# Altium integrated library Molex FFC - FPC Connectors (SMT).IntLib: 638 symbols (part 17 of 20)
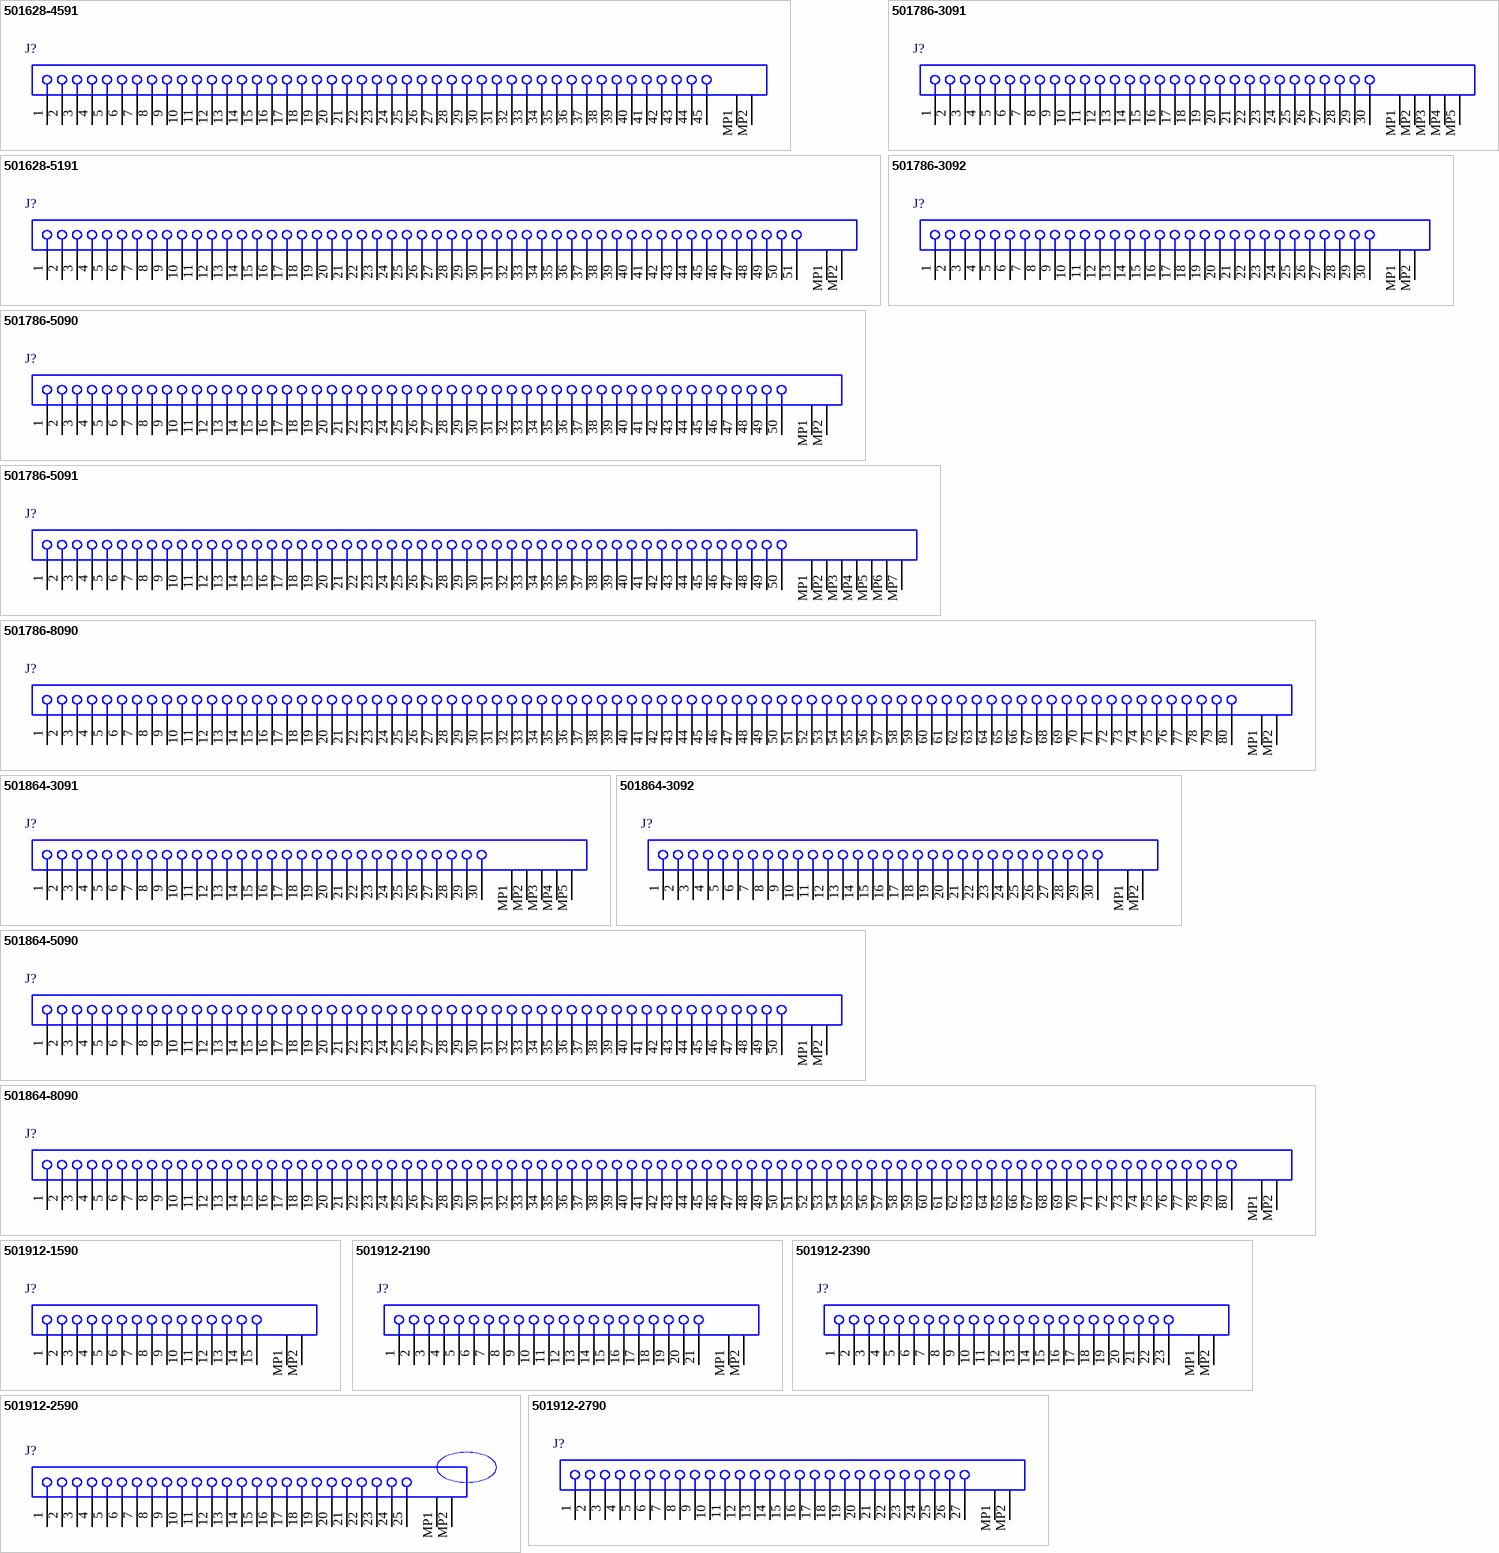
[diagram p37: symbols 501628-4591 to 501912-2790]

## 501864-5090
designator J?
0.5 mm Pitch Easy-On(TM) Type FFC Connector, 4.85 mm Mated Height, Right Angle, SMT, Bottom Contact, 50 Circuits, -40 to 85 degC, ELV and RoHS Compliant, Tape and Reel; Manufacturer: Molex; PartNumber: 501864-5090; Circuits (Loaded): 50; Current (Max per Contact): 0.5A; Durability (mating cycles max): 20; Entry Angle: 90degrees Angle; Mated Height: 4.85mm; Material - Metal: Copper Alloy; Material - Plating Mating: Gold; PCB Locator: Yes; Pitch - Mating Interface: 0.50mm; Stackable: No; Voltage (Max): 50V AC (RMS)/DC; PackageVersion: Rev. A, 05/2010; PackageReference: 501864-5090; PackageDescription: 50-Lead FFC Connector, Pitch 0.5 mm; Contact Position: Bottom; Material - Plating Termination: Gold; Number of Rows: 1; Orientation: Right Angle; Packing: Tape and Reel; PCB Retention: Yes; Polarized to PCB: Yes; RoHS: TRUE; Mounting Technology: Surface Mount; ComponentLink1Description: Manufacturer URL; ComponentLink1URL: http://www.molex.com/molex/index.jsp; ComponentLink2Description: Datasheet; ComponentLink2URL: http://www.molex.com/webdocs/datasheets/pdf/en-us/5018645090_FFC_FPC_CONNECTORS.pdf; ComponentLink3Description: Package Specification; ComponentLink3URL: http://www.molex.com/pdm_docs/sd/5018645090_sd.pdf
footprint MOLX-501864-5090 (FFC Connector, 50-Leads, Right Angle, Pitch 0.5 mm, Mated Height 4.85 mm, SMT)
pins: 1, 2, 3, 4, 5, 6, 7, 8, 9, 10, 11, 12, 13, 14, 15, 16, 17, 18, 19, 20, 21, 22, 23, 24, 25, 26, 27, 28, 29, 30, 31, 32, 33, 34, 35, 36, 37, 38, 39, 40, 41, 42, 43, 44, 45, 46, 47, 48, 49, 50, MP1, MP2

## 501864-8090
designator J?
0.5 mm Pitch Easy-On(TM) Type FFC Connector, 4.85 mm Mated Height, Right Angle, SMT, Bottom Contact, 80 Circuits, -40 to 85 degC, ELV and RoHS Compliant, Tape and Reel; Manufacturer: Molex; PartNumber: 501864-8090; Circuits (Loaded): 80; Current (Max per Contact): 0.5A; Durability (mating cycles max): 20; Entry Angle: 90degrees Angle; Mated Height: 4.85mm; Material - Metal: Copper Alloy; Material - Plating Mating: Gold; PCB Locator: Yes; Pitch - Mating Interface: 0.50mm; Stackable: No; Voltage (Max): 50V AC (RMS)/DC; PackageVersion: Rev. A, 05/2010; PackageReference: 501864-8090; PackageDescription: 80-Lead FFC Connector, Pitch 0.5 mm; Contact Position: Bottom; Material - Plating Termination: Gold; Number of Rows: 1; Orientation: Right Angle; Packing: Tape and Reel; PCB Retention: Yes; Polarized to PCB: Yes; RoHS: TRUE; Mounting Technology: Surface Mount; ComponentLink1Description: Manufacturer URL; ComponentLink1URL: http://www.molex.com/molex/index.jsp; ComponentLink2Description: Datasheet; ComponentLink2URL: http://www.molex.com/webdocs/datasheets/pdf/en-us/5018648090_FFC_FPC_CONNECTORS.pdf; ComponentLink3Description: Package Specification; ComponentLink3URL: http://www.molex.com/pdm_docs/sd/5018648090_sd.pdf
footprint MOLX-501864-8090 (FFC Connector, 80-Leads, Right Angle, Pitch 0.5 mm, Mated Height 4.85 mm, SMT)
pins: 1, 2, 3, 4, 5, 6, 7, 8, 9, 10, 11, 12, 13, 14, 15, 16, 17, 18, 19, 20, 21, 22, 23, 24, 25, 26, 27, 28, 29, 30, 31, 32, 33, 34, 35, 36, 37, 38, 39, 40, 41, 42, 43, 44, 45, 46, 47, 48, 49, 50, 51, 52, 53, 54, 55, 56, 57, 58, 59, 60, 61, 62, 63, 64, 65, 66, 67, 68, 69, 70, 71, 72, 73, 74, 75, 76, 77, 78, 79, 80, MP1, MP2

## 501912-1590
designator J?
0.3 mm Pitch Easy-On(TM) Type FPC Connector, 1.8 mm Mated Height, Right Angle, SMT, Bottom Contact, 15 Circuits, -20 to 85 degC, ELV and RoHS Compliant, Tape and Reel; Manufacturer: Molex; PartNumber: 501912-1590; Circuits (Loaded): 15; Current (Max per Contact): 0.2A; Durability (mating cycles max): 20; Entry Angle: 90degrees Angle; Mated Height: 1.80mm; Material - Metal: Copper, Phosphor Bronze; Material - Plating Mating: Gold; PCB Locator: No; PCB Retention: None; Pitch - Mating Interface: 0.30mm; Voltage (Max): 50V AC (RMS)/DC; PackageVersion: Rev. F, 04/2008; PackageReference: 501912-1590; PackageDescription: 15-Lead FPC Connector, Pitch 0.3 mm; Circuits (maximum): 15; Contact Position: Bottom; Material - Plating Termination: Gold; Number of Rows: 1; Orientation: Right Angle; Packing: Tape and Reel; Pitch - Termination Interface: 0.30mm; Polarized to PCB: No; RoHS: TRUE; Stackable: No; Mounting Technology: Surface Mount; ComponentLink1Description: Manufacturer URL; ComponentLink1URL: http://www.molex.com/molex/index.jsp; ComponentLink2Description: Datasheet; ComponentLink2URL: http://www.molex.com/webdocs/datasheets/pdf/en-us/5019121590_FFC_FPC_CONNECTORS.pdf; ComponentLink3Description: Package Specification; ComponentLink3URL: http://www.molex.com/pdm_docs/sd/5019121590_sd.pdf
footprint MOLX-501912-1590 (FPC Connector, 15-Leads, Right Angle, Pitch 0.3 mm, Mated Height 1.8 mm, SMT)
pins: 1, 2, 3, 4, 5, 6, 7, 8, 9, 10, 11, 12, 13, 14, 15, MP1, MP2

## 501912-2190
designator J?
0.3 mm Pitch Easy-On(TM) Type FPC Connector, 1.8 mm Mated Height, Right Angle, SMT, Bottom Contact, 21 Circuits, -20 to 85 degC, ELV and RoHS Compliant, Tape and Reel; Manufacturer: Molex; PartNumber: 501912-2190; Circuits (Loaded): 21; Current (Max per Contact): 0.2A; Durability (mating cycles max): 20; Entry Angle: 90degrees Angle; Mated Height: 1.80mm; Material - Metal: Copper, Phosphor Bronze; Material - Plating Mating: Gold; PCB Locator: No; PCB Retention: None; Pitch - Mating Interface: 0.30mm; Voltage (Max): 50V AC (RMS)/DC; PackageVersion: Rev. F, 04/2008; PackageReference: 501912-2190; PackageDescription: 21-Lead FPC Connector, Pitch 0.3 mm; Circuits (maximum): 21; Contact Position: Bottom; Material - Plating Termination: Gold; Number of Rows: 1; Orientation: Right Angle; Packing: Tape and Reel; Pitch - Termination Interface: 0.30mm; Polarized to PCB: No; RoHS: TRUE; Stackable: No; Mounting Technology: Surface Mount; ComponentLink1Description: Manufacturer URL; ComponentLink1URL: http://www.molex.com/molex/index.jsp; ComponentLink2Description: Datasheet; ComponentLink2URL: http://www.molex.com/webdocs/datasheets/pdf/en-us/5019122190_FFC_FPC_CONNECTORS.pdf; ComponentLink3Description: Package Specification; ComponentLink3URL: http://www.molex.com/pdm_docs/sd/5019122190_sd.pdf
footprint MOLX-501912-2190 (FPC Connector, 21-Leads, Right Angle, Pitch 0.3 mm, Mated Height 1.8 mm, SMT)
pins: 1, 2, 3, 4, 5, 6, 7, 8, 9, 10, 11, 12, 13, 14, 15, 16, 17, 18, 19, 20, 21, MP1, MP2

## 501912-2390
designator J?
0.3 mm Pitch Easy-On(TM) Type FPC Connector, 1.8 mm Mated Height, Right Angle, SMT, Bottom Contact, 23 Circuits, -20 to 85 degC, ELV and RoHS Compliant, Tape and Reel; Manufacturer: Molex; PartNumber: 501912-2390; Circuits (Loaded): 23; Current (Max per Contact): 0.2A; Durability (mating cycles max): 20; Entry Angle: 90degrees Angle; Mated Height: 1.80mm; Material - Metal: Copper, Phosphor Bronze; Material - Plating Mating: Gold; PCB Locator: No; PCB Retention: None; Pitch - Mating Interface: 0.30mm; Voltage (Max): 50V AC (RMS)/DC; PackageVersion: Rev. F, 04/2008; PackageReference: 501912-2390; PackageDescription: 23-Lead FPC Connector, Pitch 0.3 mm; Circuits (maximum): 23; Contact Position: Bottom; Material - Plating Termination: Gold; Number of Rows: 1; Orientation: Right Angle; Packing: Tape and Reel; Pitch - Termination Interface: 0.30mm; Polarized to PCB: No; RoHS: TRUE; Stackable: No; Mounting Technology: Surface Mount; ComponentLink1Description: Manufacturer URL; ComponentLink1URL: http://www.molex.com/molex/index.jsp; ComponentLink2Description: Datasheet; ComponentLink2URL: http://www.molex.com/webdocs/datasheets/pdf/en-us/5019122390_FFC_FPC_CONNECTORS.pdf; ComponentLink3Description: Package Specification; ComponentLink3URL: http://www.molex.com/pdm_docs/sd/5019122390_sd.pdf
footprint MOLX-501912-2390 (FPC Connector, 23-Leads, Right Angle, Pitch 0.3 mm, Mated Height 1.8 mm, SMT)
pins: 1, 2, 3, 4, 5, 6, 7, 8, 9, 10, 11, 12, 13, 14, 15, 16, 17, 18, 19, 20, 21, 22, 23, MP1, MP2

## 501912-2590
designator J?
0.3 mm Pitch Easy-On(TM) Type FPC Connector, 1.8 mm Mated Height, Right Angle, SMT, Bottom Contact, 25 Circuits, -20 to 85 degC, ELV and RoHS Compliant, Tape and Reel; Manufacturer: Molex; PartNumber: 501912-2590; Circuits (Loaded): 25; Current (Max per Contact): 0.2A; Durability (mating cycles max): 20; Entry Angle: 90degrees Angle; Mated Height: 1.80mm; Material - Metal: Copper, Phosphor Bronze; Material - Plating Mating: Gold; PCB Locator: No; PCB Retention: None; Pitch - Mating Interface: 0.30mm; Voltage (Max): 50V AC (RMS)/DC; PackageVersion: Rev. F, 04/2008; PackageReference: 501912-2590; PackageDescription: 25-Lead FPC Connector, Pitch 0.3 mm; Circuits (maximum): 25; Contact Position: Bottom; Material - Plating Termination: Gold; Number of Rows: 1; Orientation: Right Angle; Packing: Tape and Reel; Pitch - Termination Interface: 0.30mm; Polarized to PCB: No; RoHS: TRUE; Stackable: No; Mounting Technology: Surface Mount; ComponentLink1Description: Manufacturer URL; ComponentLink1URL: http://www.molex.com/molex/index.jsp; ComponentLink2Description: Datasheet; ComponentLink2URL: http://www.molex.com/webdocs/datasheets/pdf/en-us/5019122590_FFC_FPC_CONNECTORS.pdf; ComponentLink3Description: Package Specification; ComponentLink3URL: http://www.molex.com/pdm_docs/sd/5019122590_sd.pdf
footprint MOLX-501912-2590 (FPC Connector, 25-Leads, Right Angle, Pitch 0.3 mm, Mated Height 1.8 mm, SMT)
pins: 1, 2, 3, 4, 5, 6, 7, 8, 9, 10, 11, 12, 13, 14, 15, 16, 17, 18, 19, 20, 21, 22, 23, 24, 25, MP1, MP2

## 501912-2790
designator J?
0.3 mm Pitch Easy-On(TM) Type FPC Connector, 1.8 mm Mated Height, Right Angle, SMT, Bottom Contact, 27 Circuits, -20 to 85 degC, ELV and RoHS Compliant, Tape and Reel; Manufacturer: Molex; PartNumber: 501912-2790; Circuits (Loaded): 27; Current (Max per Contact): 0.2A; Durability (mating cycles max): 20; Entry Angle: 90degrees Angle; Mated Height: 1.80mm; Material - Metal: Copper, Phosphor Bronze; Material - Plating Mating: Gold; PCB Locator: No; PCB Retention: None; Pitch - Mating Interface: 0.30mm; Voltage (Max): 50V AC (RMS)/DC; PackageVersion: Rev. F, 04/2008; PackageReference: 501912-2790; PackageDescription: 27-Lead FPC Connector, Pitch 0.3 mm; Circuits (maximum): 27; Contact Position: Bottom; Material - Plating Termination: Gold; Number of Rows: 1; Orientation: Right Angle; Packing: Tape and Reel; Pitch - Termination Interface: 0.30mm; Polarized to PCB: No; RoHS: TRUE; Stackable: No; Mounting Technology: Surface Mount; ComponentLink1Description: Manufacturer URL; ComponentLink1URL: http://www.molex.com/molex/index.jsp; ComponentLink2Description: Datasheet; ComponentLink2URL: http://www.molex.com/webdocs/datasheets/pdf/en-us/5019122790_FFC_FPC_CONNECTORS.pdf; ComponentLink3Description: Package Specification; ComponentLink3URL: http://www.molex.com/pdm_docs/sd/5019122790_sd.pdf
footprint MOLX-501912-2790 (FPC Connector, 27-Leads, Right Angle, Pitch 0.3 mm, Mated Height 1.8 mm, SMT)
pins: 1, 2, 3, 4, 5, 6, 7, 8, 9, 10, 11, 12, 13, 14, 15, 16, 17, 18, 19, 20, 21, 22, 23, 24, 25, 26, 27, MP1, MP2

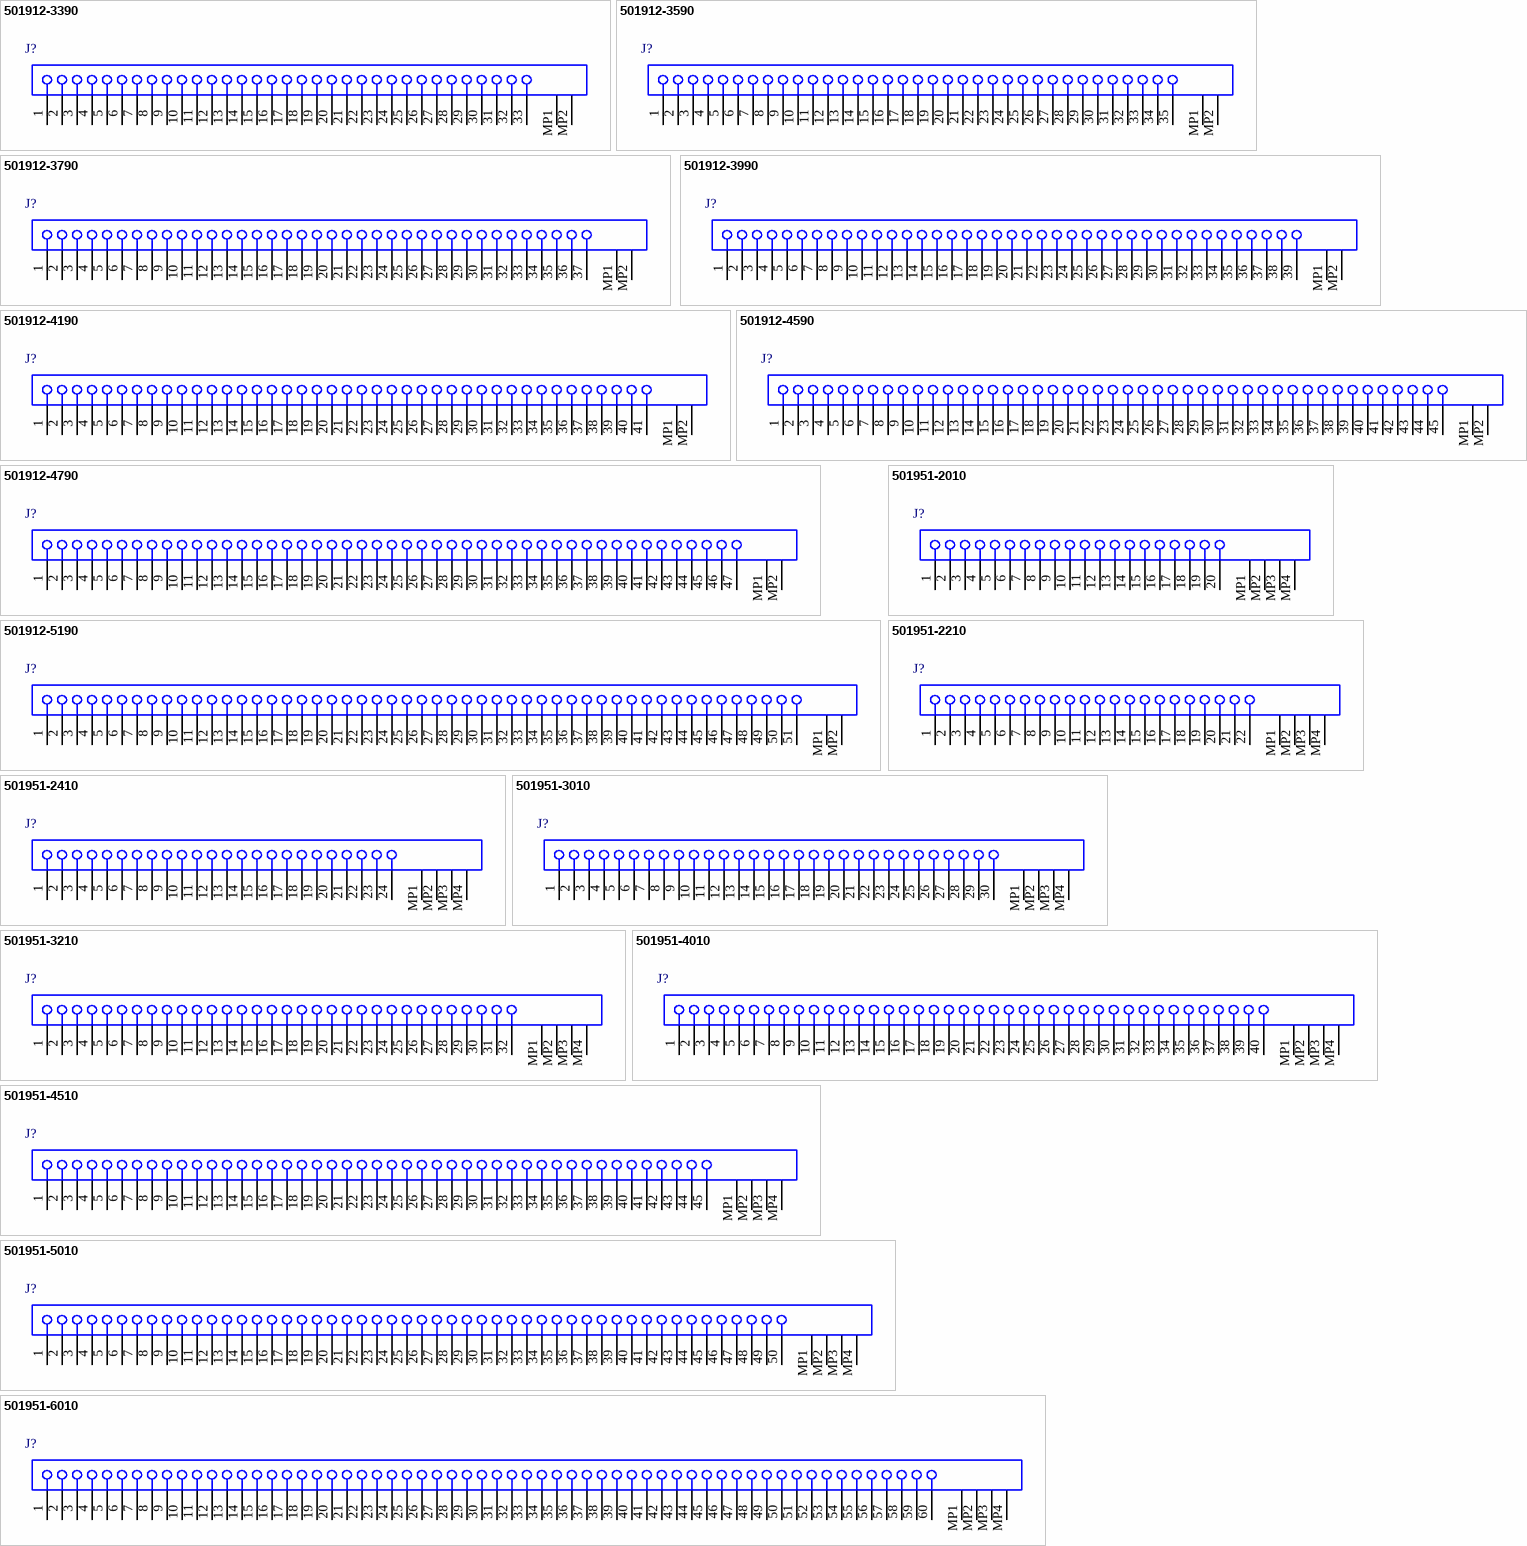
[diagram p17: symbols 501912-3390 to 501951-6010]

## 501912-3390
designator J?
0.3 mm Pitch Easy-On(TM) Type FPC Connector, 1.8 mm Mated Height, Right Angle, SMT, Bottom Contact, 33 Circuits, -20 to 85 degC, ELV and RoHS Compliant, Tape and Reel; Manufacturer: Molex; PartNumber: 501912-3390; Circuits (Loaded): 33; Current (Max per Contact): 0.2A; Durability (mating cycles max): 20; Entry Angle: 90degrees Angle; Mated Height: 1.80mm; Material - Metal: Copper, Phosphor Bronze; Material - Plating Mating: Gold; PCB Locator: No; PCB Retention: None; Pitch - Mating Interface: 0.30mm; Voltage (Max): 50V AC (RMS)/DC; PackageVersion: Rev. F, 04/2008; PackageReference: 501912-3390; PackageDescription: 33-Lead FPC Connector, Pitch 0.3 mm; Circuits (maximum): 33; Contact Position: Bottom; Material - Plating Termination: Gold; Number of Rows: 1; Orientation: Right Angle; Packing: Tape and Reel; Pitch - Termination Interface: 0.30mm; Polarized to PCB: No; RoHS: TRUE; Stackable: No; Mounting Technology: Surface Mount; ComponentLink1Description: Manufacturer URL; ComponentLink1URL: http://www.molex.com/molex/index.jsp; ComponentLink2Description: Datasheet; ComponentLink2URL: http://www.molex.com/webdocs/datasheets/pdf/en-us/5019123390_FFC_FPC_CONNECTORS.pdf; ComponentLink3Description: Package Specification; ComponentLink3URL: http://www.molex.com/pdm_docs/sd/5019123390_sd.pdf
footprint MOLX-501912-3390 (FPC Connector, 33-Leads, Right Angle, Pitch 0.3 mm, Mated Height 1.8 mm, SMT)
pins: 1, 2, 3, 4, 5, 6, 7, 8, 9, 10, 11, 12, 13, 14, 15, 16, 17, 18, 19, 20, 21, 22, 23, 24, 25, 26, 27, 28, 29, 30, 31, 32, 33, MP1, MP2

## 501912-3590
designator J?
0.3 mm Pitch Easy-On(TM) Type FPC Connector, 1.8 mm Mated Height, Right Angle, SMT, Bottom Contact, 35 Circuits, -20 to 85 degC, ELV and RoHS Compliant, Tape and Reel; Manufacturer: Molex; PartNumber: 501912-3590; Circuits (Loaded): 35; Current (Max per Contact): 0.2A; Durability (mating cycles max): 20; Entry Angle: 90degrees Angle; Mated Height: 1.80mm; Material - Metal: Copper, Phosphor Bronze; Material - Plating Mating: Gold; PCB Locator: No; PCB Retention: None; Pitch - Mating Interface: 0.30mm; Voltage (Max): 50V AC (RMS)/DC; PackageVersion: Rev. F, 04/2008; PackageReference: 501912-3590; PackageDescription: 35-Lead FPC Connector, Pitch 0.3 mm; Circuits (maximum): 35; Contact Position: Bottom; Material - Plating Termination: Gold; Number of Rows: 1; Orientation: Right Angle; Packing: Tape and Reel; Pitch - Termination Interface: 0.30mm; Polarized to PCB: No; RoHS: TRUE; Stackable: No; Mounting Technology: Surface Mount; ComponentLink1Description: Manufacturer URL; ComponentLink1URL: http://www.molex.com/molex/index.jsp; ComponentLink2Description: Datasheet; ComponentLink2URL: http://www.molex.com/webdocs/datasheets/pdf/en-us/5019123590_FFC_FPC_CONNECTORS.pdf; ComponentLink3Description: Package Specification; ComponentLink3URL: http://www.molex.com/pdm_docs/sd/5019123590_sd.pdf
footprint MOLX-501912-3590 (FPC Connector, 35-Leads, Right Angle, Pitch 0.3 mm, Mated Height 1.8 mm, SMT)
pins: 1, 2, 3, 4, 5, 6, 7, 8, 9, 10, 11, 12, 13, 14, 15, 16, 17, 18, 19, 20, 21, 22, 23, 24, 25, 26, 27, 28, 29, 30, 31, 32, 33, 34, 35, MP1, MP2

## 501912-3790
designator J?
0.3 mm Pitch Easy-On(TM) Type FPC Connector, 1.8 mm Mated Height, Right Angle, SMT, Bottom Contact, 37 Circuits, -20 to 85 degC, ELV and RoHS Compliant, Tape and Reel; Manufacturer: Molex; PartNumber: 501912-3790; Circuits (Loaded): 37; Current (Max per Contact): 0.2A; Durability (mating cycles max): 20; Entry Angle: 90degrees Angle; Mated Height: 1.80mm; Material - Metal: Copper, Phosphor Bronze; Material - Plating Mating: Gold; PCB Locator: No; PCB Retention: None; Pitch - Mating Interface: 0.30mm; Voltage (Max): 50V AC (RMS)/DC; PackageVersion: Rev. F, 04/2008; PackageReference: 501912-3790; PackageDescription: 37-Lead FPC Connector, Pitch 0.3 mm; Circuits (maximum): 37; Contact Position: Bottom; Material - Plating Termination: Gold; Number of Rows: 1; Orientation: Right Angle; Packing: Tape and Reel; Pitch - Termination Interface: 0.30mm; Polarized to PCB: No; RoHS: TRUE; Stackable: No; Mounting Technology: Surface Mount; ComponentLink1Description: Manufacturer URL; ComponentLink1URL: http://www.molex.com/molex/index.jsp; ComponentLink2Description: Datasheet; ComponentLink2URL: http://www.molex.com/webdocs/datasheets/pdf/en-us/5019123790_FFC_FPC_CONNECTORS.pdf; ComponentLink3Description: Package Specification; ComponentLink3URL: http://www.molex.com/pdm_docs/sd/5019123790_sd.pdf
footprint MOLX-501912-3790 (FPC Connector, 37-Leads, Right Angle, Pitch 0.3 mm, Mated Height 1.8 mm, SMT)
pins: 1, 2, 3, 4, 5, 6, 7, 8, 9, 10, 11, 12, 13, 14, 15, 16, 17, 18, 19, 20, 21, 22, 23, 24, 25, 26, 27, 28, 29, 30, 31, 32, 33, 34, 35, 36, 37, MP1, MP2

## 501912-3990
designator J?
0.3 mm Pitch Easy-On(TM) Type FPC Connector, 1.8 mm Mated Height, Right Angle, SMT, Bottom Contact, 39 Circuits, -20 to 85 degC, ELV and RoHS Compliant, Tape and Reel; Manufacturer: Molex; PartNumber: 501912-3990; Circuits (Loaded): 39; Current (Max per Contact): 0.2A; Durability (mating cycles max): 20; Entry Angle: 90degrees Angle; Mated Height: 1.80mm; Material - Metal: Copper, Phosphor Bronze; Material - Plating Mating: Gold; PCB Locator: No; PCB Retention: None; Pitch - Mating Interface: 0.30mm; Voltage (Max): 50V AC (RMS)/DC; PackageVersion: Rev. F, 04/2008; PackageReference: 501912-3990; PackageDescription: 39-Lead FPC Connector, Pitch 0.3 mm; Circuits (maximum): 39; Contact Position: Bottom; Material - Plating Termination: Gold; Number of Rows: 1; Orientation: Right Angle; Packing: Tape and Reel; Pitch - Termination Interface: 0.30mm; Polarized to PCB: No; RoHS: TRUE; Stackable: No; Mounting Technology: Surface Mount; ComponentLink1Description: Manufacturer URL; ComponentLink1URL: http://www.molex.com/molex/index.jsp; ComponentLink2Description: Datasheet; ComponentLink2URL: http://www.molex.com/webdocs/datasheets/pdf/en-us/5019123990_FFC_FPC_CONNECTORS.pdf; ComponentLink3Description: Package Specification; ComponentLink3URL: http://www.molex.com/pdm_docs/sd/5019123990_sd.pdf
footprint MOLX-501912-3990 (FPC Connector, 39-Leads, Right Angle, Pitch 0.3 mm, Mated Height 1.8 mm, SMT)
pins: 1, 2, 3, 4, 5, 6, 7, 8, 9, 10, 11, 12, 13, 14, 15, 16, 17, 18, 19, 20, 21, 22, 23, 24, 25, 26, 27, 28, 29, 30, 31, 32, 33, 34, 35, 36, 37, 38, 39, MP1, MP2

## 501912-4190
designator J?
0.3 mm Pitch Easy-On(TM) Type FPC Connector, 1.8 mm Mated Height, Right Angle, SMT, Bottom Contact, 41 Circuits, -20 to 85 degC, ELV and RoHS Compliant, Tape and Reel; Manufacturer: Molex; PartNumber: 501912-4190; Circuits (Loaded): 41; Current (Max per Contact): 0.2A; Durability (mating cycles max): 20; Entry Angle: 90degrees Angle; Mated Height: 1.80mm; Material - Metal: Copper, Phosphor Bronze; Material - Plating Mating: Gold; PCB Locator: No; PCB Retention: None; Pitch - Mating Interface: 0.30mm; Voltage (Max): 50V AC (RMS)/DC; PackageVersion: Rev. F, 04/2008; PackageReference: 501912-4190; PackageDescription: 41-Lead FPC Connector, Pitch 0.3 mm; Circuits (maximum): 41; Contact Position: Bottom; Material - Plating Termination: Gold; Number of Rows: 1; Orientation: Right Angle; Packing: Tape and Reel; Pitch - Termination Interface: 0.30mm; Polarized to PCB: No; RoHS: TRUE; Stackable: No; Mounting Technology: Surface Mount; ComponentLink1Description: Manufacturer URL; ComponentLink1URL: http://www.molex.com/molex/index.jsp; ComponentLink2Description: Datasheet; ComponentLink2URL: http://www.molex.com/webdocs/datasheets/pdf/en-us/5019124190_FFC_FPC_CONNECTORS.pdf; ComponentLink3Description: Package Specification; ComponentLink3URL: http://www.molex.com/pdm_docs/sd/5019124190_sd.pdf
footprint MOLX-501912-4190 (FPC Connector, 41-Leads, Right Angle, Pitch 0.3 mm, Mated Height 1.8 mm, SMT)
pins: 1, 2, 3, 4, 5, 6, 7, 8, 9, 10, 11, 12, 13, 14, 15, 16, 17, 18, 19, 20, 21, 22, 23, 24, 25, 26, 27, 28, 29, 30, 31, 32, 33, 34, 35, 36, 37, 38, 39, 40, 41, MP1, MP2

## 501912-4590
designator J?
0.3 mm Pitch Easy-On(TM) Type FPC Connector, 1.8 mm Mated Height, Right Angle, SMT, Bottom Contact, 45 Circuits, -20 to 85 degC, ELV and RoHS Compliant, Tape and Reel; Manufacturer: Molex; PartNumber: 501912-4590; Circuits (Loaded): 45; Current (Max per Contact): 0.2A; Durability (mating cycles max): 20; Entry Angle: 90degrees Angle; Mated Height: 1.80mm; Material - Metal: Copper, Phosphor Bronze; Material - Plating Mating: Gold; PCB Locator: No; PCB Retention: None; Pitch - Mating Interface: 0.30mm; Voltage (Max): 50V AC (RMS)/DC; PackageVersion: Rev. F, 04/2008; PackageReference: 501912-4590; PackageDescription: 45-Lead FPC Connector, Pitch 0.3 mm; Circuits (maximum): 45; Contact Position: Bottom; Material - Plating Termination: Gold; Number of Rows: 1; Orientation: Right Angle; Packing: Tape and Reel; Pitch - Termination Interface: 0.30mm; Polarized to PCB: No; RoHS: TRUE; Stackable: No; Mounting Technology: Surface Mount; ComponentLink1Description: Manufacturer URL; ComponentLink1URL: http://www.molex.com/molex/index.jsp; ComponentLink2Description: Datasheet; ComponentLink2URL: http://www.molex.com/webdocs/datasheets/pdf/en-us/5019124590_FFC_FPC_CONNECTORS.pdf; ComponentLink3Description: Package Specification; ComponentLink3URL: http://www.molex.com/pdm_docs/sd/5019124590_sd.pdf
footprint MOLX-501912-4590 (FPC Connector, 45-Leads, Right Angle, Pitch 0.3 mm, Mated Height 1.8 mm, SMT)
pins: 1, 2, 3, 4, 5, 6, 7, 8, 9, 10, 11, 12, 13, 14, 15, 16, 17, 18, 19, 20, 21, 22, 23, 24, 25, 26, 27, 28, 29, 30, 31, 32, 33, 34, 35, 36, 37, 38, 39, 40, 41, 42, 43, 44, 45, MP1, MP2

## 501912-4790
designator J?
0.3 mm Pitch Easy-On(TM) Type FPC Connector, 1.8 mm Mated Height, Right Angle, SMT, Bottom Contact, 47 Circuits, -20 to 85 degC, ELV and RoHS Compliant, Tape and Reel; Manufacturer: Molex; PartNumber: 501912-4790; Circuits (Loaded): 47; Current (Max per Contact): 0.2A; Durability (mating cycles max): 20; Entry Angle: 90degrees Angle; Mated Height: 1.80mm; Material - Metal: Copper, Phosphor Bronze; Material - Plating Mating: Gold; PCB Locator: No; PCB Retention: None; Pitch - Mating Interface: 0.30mm; Voltage (Max): 50V AC (RMS)/DC; PackageVersion: Rev. F, 04/2008; PackageReference: 501912-4790; PackageDescription: 47-Lead FPC Connector, Pitch 0.3 mm; Circuits (maximum): 47; Contact Position: Bottom; Material - Plating Termination: Gold; Number of Rows: 1; Orientation: Right Angle; Packing: Tape and Reel; Pitch - Termination Interface: 0.30mm; Polarized to PCB: No; RoHS: TRUE; Stackable: No; Mounting Technology: Surface Mount; ComponentLink1Description: Manufacturer URL; ComponentLink1URL: http://www.molex.com/molex/index.jsp; ComponentLink2Description: Datasheet; ComponentLink2URL: http://www.molex.com/webdocs/datasheets/pdf/en-us/5019124790_FFC_FPC_CONNECTORS.pdf; ComponentLink3Description: Package Specification; ComponentLink3URL: http://www.molex.com/pdm_docs/sd/5019124790_sd.pdf
footprint MOLX-501912-4790 (FPC Connector, 47-Leads, Right Angle, Pitch 0.3 mm, Mated Height 1.8 mm, SMT)
pins: 1, 2, 3, 4, 5, 6, 7, 8, 9, 10, 11, 12, 13, 14, 15, 16, 17, 18, 19, 20, 21, 22, 23, 24, 25, 26, 27, 28, 29, 30, 31, 32, 33, 34, 35, 36, 37, 38, 39, 40, 41, 42, 43, 44, 45, 46, 47, MP1, MP2

## 501912-5190
designator J?
0.3 mm Pitch Easy-On(TM) Type FPC Connector, 1.8 mm Mated Height, Right Angle, SMT, Bottom Contact, 51 Circuits, -20 to 85 degC, ELV and RoHS Compliant, Tape and Reel; Manufacturer: Molex; PartNumber: 501912-5190; Circuits (Loaded): 51; Current (Max per Contact): 0.2A; Durability (mating cycles max): 20; Entry Angle: 90degrees Angle; Mated Height: 1.80mm; Material - Metal: Copper, Phosphor Bronze; Material - Plating Mating: Gold; PCB Locator: No; PCB Retention: None; Pitch - Mating Interface: 0.30mm; Voltage (Max): 50V AC (RMS)/DC; PackageVersion: Rev. F, 04/2008; PackageReference: 501912-5190; PackageDescription: 51-Lead FPC Connector, Pitch 0.3 mm; Circuits (maximum): 51; Contact Position: Bottom; Material - Plating Termination: Gold; Number of Rows: 1; Orientation: Right Angle; Packing: Tape and Reel; Pitch - Termination Interface: 0.30mm; Polarized to PCB: No; RoHS: TRUE; Stackable: No; Mounting Technology: Surface Mount; ComponentLink1Description: Manufacturer URL; ComponentLink1URL: http://www.molex.com/molex/index.jsp; ComponentLink2Description: Datasheet; ComponentLink2URL: http://www.molex.com/webdocs/datasheets/pdf/en-us/5019125190_FFC_FPC_CONNECTORS.pdf; ComponentLink3Description: Package Specification; ComponentLink3URL: http://www.molex.com/pdm_docs/sd/5019125190_sd.pdf
footprint MOLX-501912-5190 (FPC Connector, 51-Leads, Right Angle, Pitch 0.3 mm, Mated Height 1.8 mm, SMT)
pins: 1, 2, 3, 4, 5, 6, 7, 8, 9, 10, 11, 12, 13, 14, 15, 16, 17, 18, 19, 20, 21, 22, 23, 24, 25, 26, 27, 28, 29, 30, 31, 32, 33, 34, 35, 36, 37, 38, 39, 40, 41, 42, 43, 44, 45, 46, 47, 48, 49, 50, 51, MP1, MP2

## 501951-2010
designator J?
0.5 mm Pitch Easy-On(TM) Type FPC Connector, 4.05 mm Mated Height, Vertical, SMT, 20 Circuits, -25 to 85 degC, ELV and RoHS Compliant, Tape and Reel; Manufacturer: Molex; PartNumber: 501951-2010; Circuits (Loaded): 20; Current (Max per Contact): 0.4A; Mated Height: 4.05mm; Material - Metal: Phosphor Bronze; Material - Plating Mating: Gold; PCB Locator: No; PCB Retention: Yes; Pitch - Mating Interface: 0.50mm; Voltage (Max): 50V AC (RMS)/DC; PackageVersion: Rev. E, 01/2011; PackageReference: 501951-2010; PackageDescription: 20-Lead FPC Connector, Pitch 0.5 mm; Circuits (maximum): 20; Contact Position: N/A; Durability (mating cycles max): 20; Entry Angle: Vertical; Material - Plating Termination: Gold; Number of Rows: 1; Orientation: Vertical; Packing: Tape and Reel; Pitch - Termination Interface: 0.50mm; Polarized to PCB: No; RoHS: TRUE; Stackable: No; Mounting Technology: Surface Mount; ComponentLink1Description: Manufacturer URL; ComponentLink1URL: http://www.molex.com/molex/index.jsp; ComponentLink2Description: Datasheet; ComponentLink2URL: http://www.molex.com/webdocs/datasheets/pdf/en-us/5019512010_FFC_FPC_CONNECTORS.pdf; ComponentLink3Description: Package Specification; ComponentLink3URL: http://www.molex.com/pdm_docs/sd/5019512010_sd.pdf
footprint MOLX-501951-2010 (FPC Connector, 20-Leads, Vertical, Pitch 0.5 mm, Mated Height 4.05 mm, SMT)
pins: 1, 2, 3, 4, 5, 6, 7, 8, 9, 10, 11, 12, 13, 14, 15, 16, 17, 18, 19, 20, MP1, MP2, MP3, MP4

## 501951-2210
designator J?
0.5 mm Pitch Easy-On(TM) Type FPC Connector, 4.05 mm Mated Height, Vertical, SMT, 22 Circuits, -25 to 85 degC, ELV and RoHS Compliant, Tape and Reel; Manufacturer: Molex; PartNumber: 501951-2210; Circuits (Loaded): 22; Current (Max per Contact): 0.4A; Durability (mating cycles max): 20; Mated Height: 4.05mm; Material - Metal: Phosphor Bronze; Material - Plating Mating: Gold; PCB Locator: No; PCB Retention: Yes; Pitch - Mating Interface: 0.50mm; Voltage (Max): 50V AC (RMS)/DC; PackageVersion: Rev. E, 01/2011; PackageReference: 501951-2210; PackageDescription: 22-Lead FPC Connector, Pitch 0.5 mm; Circuits (maximum): 22; Contact Position: N/A; Entry Angle: Vertical; Material - Plating Termination: Gold; Number of Rows: 1; Orientation: Vertical; Packing: Tape and Reel; Pitch - Termination Interface: 0.50mm; Polarized to PCB: No; RoHS: TRUE; Stackable: No; Mounting Technology: Surface Mount; ComponentLink1Description: Manufacturer URL; ComponentLink1URL: http://www.molex.com/molex/index.jsp; ComponentLink2Description: Datasheet; ComponentLink2URL: http://www.molex.com/webdocs/datasheets/pdf/en-us/5019512210_FFC_FPC_CONNECTORS.pdf; ComponentLink3Description: Package Specification; ComponentLink3URL: http://www.molex.com/pdm_docs/sd/5019512210_sd.pdf
footprint MOLX-501951-2210 (FPC Connector, 22-Leads, Vertical, Pitch 0.5 mm, Mated Height 4.05 mm, SMT)
pins: 1, 2, 3, 4, 5, 6, 7, 8, 9, 10, 11, 12, 13, 14, 15, 16, 17, 18, 19, 20, 21, 22, MP1, MP2, MP3, MP4

## 501951-2410
designator J?
0.5 mm Pitch Easy-On(TM) Type FPC Connector, 4.05 mm Mated Height, Vertical, SMT, 24 Circuits, -25 to 85 degC, ELV and RoHS Compliant, Tape and Reel; Manufacturer: Molex; PartNumber: 501951-2410; Circuits (Loaded): 24; Current (Max per Contact): 0.4A; Durability (mating cycles max): 20; Mated Height: 4.05mm; Material - Metal: Phosphor Bronze; Material - Plating Mating: Gold; PCB Locator: No; PCB Retention: Yes; Pitch - Mating Interface: 0.50mm; Voltage (Max): 50V AC (RMS)/DC; PackageVersion: Rev. E, 01/2011; PackageReference: 501951-2410; PackageDescription: 24-Lead FPC Connector, Pitch 0.5 mm; Circuits (maximum): 24; Contact Position: N/A; Entry Angle: Vertical; Material - Plating Termination: Gold; Number of Rows: 1; Orientation: Vertical; Packing: Tape and Reel; Pitch - Termination Interface: 0.50mm; Polarized to PCB: No; RoHS: TRUE; Stackable: No; Mounting Technology: Surface Mount; ComponentLink1Description: Manufacturer URL; ComponentLink1URL: http://www.molex.com/molex/index.jsp; ComponentLink2Description: Datasheet; ComponentLink2URL: http://www.molex.com/webdocs/datasheets/pdf/en-us/5019512410_FFC_FPC_CONNECTORS.pdf; ComponentLink3Description: Package Specification; ComponentLink3URL: http://www.molex.com/pdm_docs/sd/5019512410_sd.pdf
footprint MOLX-501951-2410 (FPC Connector, 24-Leads, Vertical, Pitch 0.5 mm, Mated Height 4.05 mm, SMT)
pins: 1, 2, 3, 4, 5, 6, 7, 8, 9, 10, 11, 12, 13, 14, 15, 16, 17, 18, 19, 20, 21, 22, 23, 24, MP1, MP2, MP3, MP4

## 501951-3010
designator J?
0.5 mm Pitch Easy-On(TM) Type FPC Connector, 4.05 mm Mated Height, Vertical, SMT, 30 Circuits, -25 to 85 degC, ELV and RoHS Compliant, Tape and Reel; Manufacturer: Molex; PartNumber: 501951-3010; Circuits (Loaded): 30; Current (Max per Contact): 0.4A; Durability (mating cycles max): 20; Mated Height: 4.05mm; Material - Metal: Phosphor Bronze; Material - Plating Mating: Gold; PCB Locator: No; PCB Retention: Yes; Pitch - Mating Interface: 0.50mm; Voltage (Max): 50V AC (RMS)/DC; PackageVersion: Rev. E, 01/2011; PackageReference: 501951-3010; PackageDescription: 30-Lead FPC Connector, Pitch 0.5 mm; Circuits (maximum): 30; Contact Position: N/A; Entry Angle: Vertical; Material - Plating Termination: Gold; Number of Rows: 1; Orientation: Vertical; Packing: Tape and Reel; Pitch - Termination Interface: 0.50mm; Polarized to PCB: No; RoHS: TRUE; Stackable: No; Mounting Technology: Surface Mount; ComponentLink1Description: Manufacturer URL; ComponentLink1URL: http://www.molex.com/molex/index.jsp; ComponentLink2Description: Datasheet; ComponentLink2URL: http://www.molex.com/webdocs/datasheets/pdf/en-us/5019513010_FFC_FPC_CONNECTORS.pdf; ComponentLink3Description: Package Specification; ComponentLink3URL: http://www.molex.com/pdm_docs/sd/5019513010_sd.pdf
footprint MOLX-501951-3010 (FPC Connector, 30-Leads, Vertical, Pitch 0.5 mm, Mated Height 4.05 mm, SMT)
pins: 1, 2, 3, 4, 5, 6, 7, 8, 9, 10, 11, 12, 13, 14, 15, 16, 17, 18, 19, 20, 21, 22, 23, 24, 25, 26, 27, 28, 29, 30, MP1, MP2, MP3, MP4

## 501951-3210
designator J?
0.5 mm Pitch Easy-On(TM) Type FPC Connector, 4.05 mm Mated Height, Vertical, SMT, 32 Circuits, -25 to 85 degC, ELV and RoHS Compliant, Tape and Reel; Manufacturer: Molex; PartNumber: 501951-3210; Circuits (Loaded): 32; Current (Max per Contact): 0.4A; Durability (mating cycles max): 20; Mated Height: 4.05mm; Material - Metal: Phosphor Bronze; Material - Plating Mating: Gold; PCB Locator: No; PCB Retention: Yes; Pitch - Mating Interface: 0.50mm; Voltage (Max): 50V AC (RMS)/DC; PackageVersion: Rev. E, 01/2011; PackageReference: 501951-3210; PackageDescription: 32-Lead FPC Connector, Pitch 0.5 mm; Circuits (maximum): 32; Contact Position: N/A; Entry Angle: Vertical; Material - Plating Termination: Gold; Number of Rows: 1; Orientation: Vertical; Packing: Tape and Reel; Pitch - Termination Interface: 0.50mm; Polarized to PCB: No; RoHS: TRUE; Stackable: No; Mounting Technology: Surface Mount; ComponentLink1Description: Manufacturer URL; ComponentLink1URL: http://www.molex.com/molex/index.jsp; ComponentLink2Description: Datasheet; ComponentLink2URL: http://www.molex.com/webdocs/datasheets/pdf/en-us/5019513210_FFC_FPC_CONNECTORS.pdf; ComponentLink3Description: Package Specification; ComponentLink3URL: http://www.molex.com/pdm_docs/sd/5019513210_sd.pdf
footprint MOLX-501951-3210 (FPC Connector, 32-Leads, Vertical, Pitch 0.5 mm, Mated Height 4.05 mm, SMT)
pins: 1, 2, 3, 4, 5, 6, 7, 8, 9, 10, 11, 12, 13, 14, 15, 16, 17, 18, 19, 20, 21, 22, 23, 24, 25, 26, 27, 28, 29, 30, 31, 32, MP1, MP2, MP3, MP4

## 501951-4010
designator J?
0.5 mm Pitch Easy-On(TM) Type FPC Connector, 4.05 mm Mated Height, Vertical, SMT, 40 Circuits, -25 to 85 degC, ELV and RoHS Compliant, Tape and Reel; Manufacturer: Molex; PartNumber: 501951-4010; Circuits (Loaded): 40; Current (Max per Contact): 0.4A; Durability (mating cycles max): 20; Mated Height: 4.05mm; Material - Metal: Phosphor Bronze; Material - Plating Mating: Gold; PCB Locator: No; PCB Retention: Yes; Pitch - Mating Interface: 0.50mm; Voltage (Max): 50V AC (RMS)/DC; PackageVersion: Rev. E, 01/2011; PackageReference: 501951-4010; PackageDescription: 40-Lead FPC Connector, Pitch 0.5 mm; Circuits (maximum): 40; Contact Position: N/A; Entry Angle: Vertical; Material - Plating Termination: Gold; Number of Rows: 1; Orientation: Vertical; Packing: Tape and Reel; Pitch - Termination Interface: 0.50mm; Polarized to PCB: No; RoHS: TRUE; Stackable: No; Mounting Technology: Surface Mount; ComponentLink1Description: Manufacturer URL; ComponentLink1URL: http://www.molex.com/molex/index.jsp; ComponentLink2Description: Datasheet; ComponentLink2URL: http://www.molex.com/webdocs/datasheets/pdf/en-us/5019514010_FFC_FPC_CONNECTORS.pdf; ComponentLink3Description: Package Specification; ComponentLink3URL: http://www.molex.com/pdm_docs/sd/5019514010_sd.pdf
footprint MOLX-501951-4010 (FPC Connector, 40-Leads, Vertical, Pitch 0.5 mm, Mated Height 4.05 mm, SMT)
pins: 1, 2, 3, 4, 5, 6, 7, 8, 9, 10, 11, 12, 13, 14, 15, 16, 17, 18, 19, 20, 21, 22, 23, 24, 25, 26, 27, 28, 29, 30, 31, 32, 33, 34, 35, 36, 37, 38, 39, 40, MP1, MP2, MP3, MP4

## 501951-4510
designator J?
0.5 mm Pitch Easy-On(TM) Type FPC Connector, 4.05 mm Mated Height, Vertical, SMT, 45 Circuits, -25 to 85 degC, ELV and RoHS Compliant, Tape and Reel; Manufacturer: Molex; PartNumber: 501951-4510; Circuits (Loaded): 45; Current (Max per Contact): 0.4A; Durability (mating cycles max): 20; Mated Height: 4.05mm; Material - Metal: Phosphor Bronze; Material - Plating Mating: Gold; PCB Locator: No; PCB Retention: Yes; Pitch - Mating Interface: 0.50mm; Voltage (Max): 50V AC (RMS)/DC; PackageVersion: Rev. E, 01/2011; PackageReference: 501951-4510; PackageDescription: 45-Lead FPC Connector, Pitch 0.5 mm; Circuits (maximum): 45; Contact Position: N/A; Entry Angle: Vertical; Material - Plating Termination: Gold; Number of Rows: 1; Orientation: Vertical; Packing: Tape and Reel; Pitch - Termination Interface: 0.50mm; Polarized to PCB: No; RoHS: TRUE; Stackable: No; Mounting Technology: Surface Mount; ComponentLink1Description: Manufacturer URL; ComponentLink1URL: http://www.molex.com/molex/index.jsp; ComponentLink2Description: Datasheet; ComponentLink2URL: http://www.molex.com/webdocs/datasheets/pdf/en-us/5019514510_FFC_FPC_CONNECTORS.pdf; ComponentLink3Description: Package Specification; ComponentLink3URL: http://www.molex.com/pdm_docs/sd/5019514510_sd.pdf
footprint MOLX-501951-4510 (FPC Connector, 45-Leads, Vertical, Pitch 0.5 mm, Mated Height 4.05 mm, SMT)
pins: 1, 2, 3, 4, 5, 6, 7, 8, 9, 10, 11, 12, 13, 14, 15, 16, 17, 18, 19, 20, 21, 22, 23, 24, 25, 26, 27, 28, 29, 30, 31, 32, 33, 34, 35, 36, 37, 38, 39, 40, 41, 42, 43, 44, 45, MP1, MP2, MP3, MP4

## 501951-5010
designator J?
0.5 mm Pitch Easy-On(TM) Type FPC Connector, 4.05 mm Mated Height, Vertical, SMT, 50 Circuits, -25 to 85 degC, ELV and RoHS Compliant, Tape and Reel; Manufacturer: Molex; PartNumber: 501951-5010; Circuits (Loaded): 50; Current (Max per Contact): 0.4A; Durability (mating cycles max): 20; Mated Height: 4.05mm; Material - Metal: Phosphor Bronze; Material - Plating Mating: Gold; PCB Locator: No; PCB Retention: Yes; Pitch - Mating Interface: 0.50mm; Voltage (Max): 50V AC (RMS)/DC; PackageVersion: Rev. E, 01/2011; PackageReference: 501951-5010; PackageDescription: 50-Lead FPC Connector, Pitch 0.5 mm; Circuits (maximum): 50; Contact Position: N/A; Entry Angle: Vertical; Material - Plating Termination: Gold; Number of Rows: 1; Orientation: Vertical; Packing: Tape and Reel; Pitch - Termination Interface: 0.50mm; Polarized to PCB: No; RoHS: TRUE; Stackable: No; Mounting Technology: Surface Mount; ComponentLink1Description: Manufacturer URL; ComponentLink1URL: http://www.molex.com/molex/index.jsp; ComponentLink2Description: Datasheet; ComponentLink2URL: http://www.molex.com/webdocs/datasheets/pdf/en-us/5019515010_FFC_FPC_CONNECTORS.pdf; ComponentLink3Description: Package Specification; ComponentLink3URL: http://www.molex.com/pdm_docs/sd/5019515010_sd.pdf
footprint MOLX-501951-5010 (FPC Connector, 50-Leads, Vertical, Pitch 0.5 mm, Mated Height 4.05 mm, SMT)
pins: 1, 2, 3, 4, 5, 6, 7, 8, 9, 10, 11, 12, 13, 14, 15, 16, 17, 18, 19, 20, 21, 22, 23, 24, 25, 26, 27, 28, 29, 30, 31, 32, 33, 34, 35, 36, 37, 38, 39, 40, 41, 42, 43, 44, 45, 46, 47, 48, 49, 50, MP1, MP2, MP3, MP4

## 501951-6010
designator J?
0.5 mm Pitch Easy-On(TM) Type FPC Connector, 4.05 mm Mated Height, Vertical, SMT, 60 Circuits, -25 to 85 degC, ELV and RoHS Compliant, Tape and Reel; Manufacturer: Molex; PartNumber: 501951-6010; Circuits (Loaded): 60; Current (Max per Contact): 0.4A; Durability (mating cycles max): 20; Mated Height: 4.05mm; Material - Metal: Phosphor Bronze; Material - Plating Mating: Gold; PCB Locator: No; PCB Retention: Yes; Pitch - Mating Interface: 0.50mm; Voltage (Max): 50V AC (RMS)/DC; PackageVersion: Rev. E, 01/2011; PackageReference: 501951-6010; PackageDescription: 60-Lead FPC Connector, Pitch 0.5 mm; Circuits (maximum): 60; Contact Position: N/A; Entry Angle: Vertical; Material - Plating Termination: Gold; Number of Rows: 1; Orientation: Vertical; Packing: Tape and Reel; Pitch - Termination Interface: 0.50mm; Polarized to PCB: No; RoHS: TRUE; Stackable: No; Mounting Technology: Surface Mount; ComponentLink1Description: Manufacturer URL; ComponentLink1URL: http://www.molex.com/molex/index.jsp; ComponentLink2Description: Datasheet; ComponentLink2URL: http://www.molex.com/webdocs/datasheets/pdf/en-us/5019516010_FFC_FPC_CONNECTORS.pdf; ComponentLink3Description: Package Specification; ComponentLink3URL: http://www.molex.com/pdm_docs/sd/5019516010_sd.pdf
footprint MOLX-501951-6010 (FPC Connector, 60-Leads, Vertical, Pitch 0.5 mm, Mated Height 4.05 mm, SMT)
pins: 1, 2, 3, 4, 5, 6, 7, 8, 9, 10, 11, 12, 13, 14, 15, 16, 17, 18, 19, 20, 21, 22, 23, 24, 25, 26, 27, 28, 29, 30, 31, 32, 33, 34, 35, 36, 37, 38, 39, 40, 41, 42, 43, 44, 45, 46, 47, 48, 49, 50, 51, 52, 53, 54, 55, 56, 57, 58, 59, 60, MP1, MP2, MP3, MP4

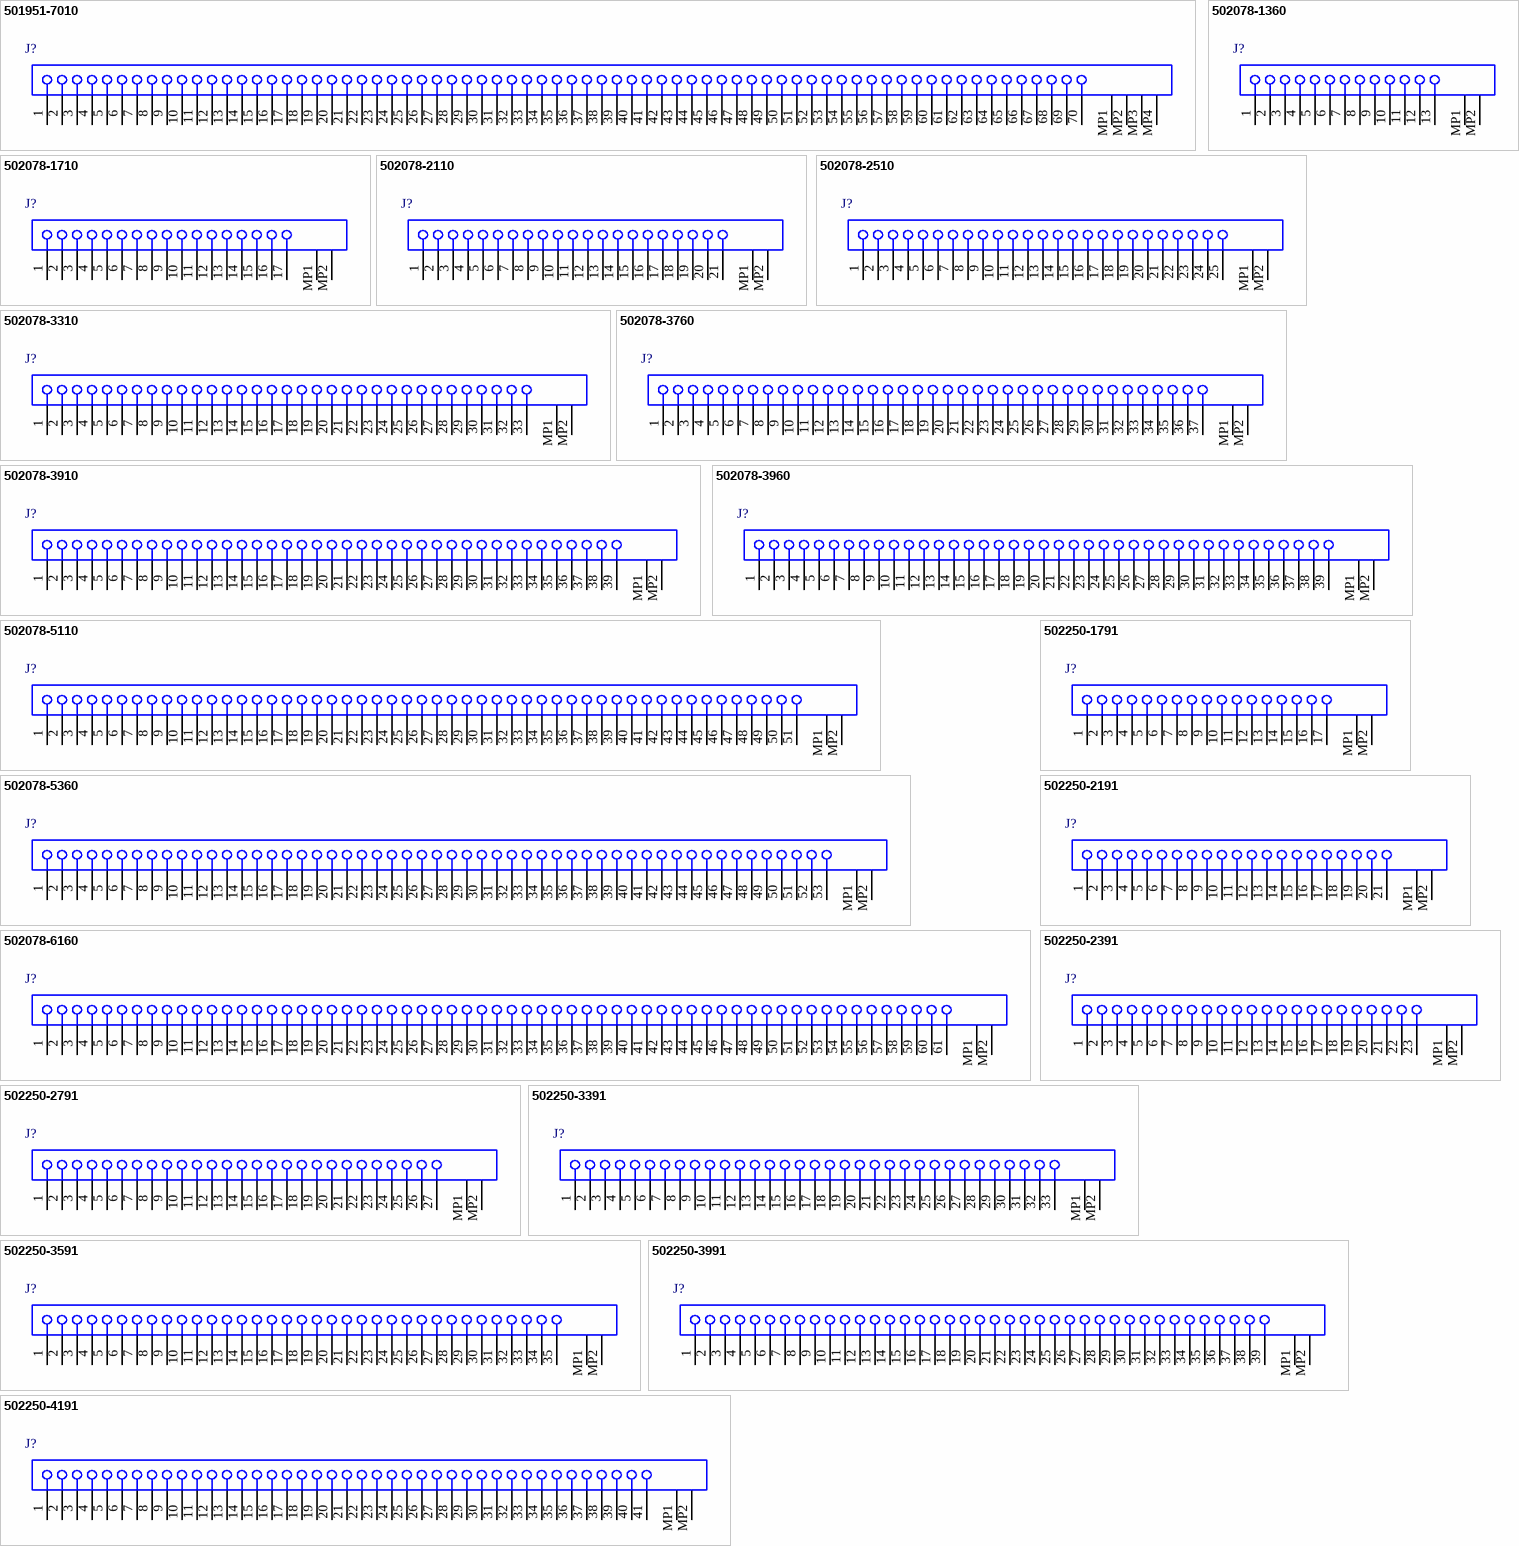
[diagram p18: symbols 501951-7010 to 502250-4191]

## 501951-7010
designator J?
0.5 mm Pitch Easy-On(TM) Type FPC Connector, 4.05 mm Mated Height, Vertical, SMT, 70 Circuits, -25 to 85 degC, ELV and RoHS Compliant, Tape and Reel; Manufacturer: Molex; PartNumber: 501951-7010; Circuits (Loaded): 70; Current (Max per Contact): 0.4A; Durability (mating cycles max): 20; Mated Height: 4.05mm; Material - Metal: Phosphor Bronze; Material - Plating Mating: Gold; PCB Locator: No; PCB Retention: Yes; Pitch - Mating Interface: 0.50mm; Voltage (Max): 50V AC (RMS)/DC; PackageVersion: Rev. E, 01/2011; PackageReference: 501951-7010; PackageDescription: 70-Lead FPC Connector, Pitch 0.5 mm; Circuits (maximum): 70; Contact Position: N/A; Entry Angle: Vertical; Material - Plating Termination: Gold; Number of Rows: 1; Orientation: Vertical; Packing: Tape and Reel; Pitch - Termination Interface: 0.50mm; Polarized to PCB: No; RoHS: TRUE; Stackable: No; Mounting Technology: Surface Mount; ComponentLink1Description: Manufacturer URL; ComponentLink1URL: http://www.molex.com/molex/index.jsp; ComponentLink2Description: Datasheet; ComponentLink2URL: http://www.molex.com/webdocs/datasheets/pdf/en-us/5019517010_FFC_FPC_CONNECTORS.pdf; ComponentLink3Description: Package Specification; ComponentLink3URL: http://www.molex.com/pdm_docs/sd/5019517010_sd.pdf
footprint MOLX-501951-7010 (FPC Connector, 70-Leads, Vertical, Pitch 0.5 mm, Mated Height 4.05 mm, SMT)
pins: 1, 2, 3, 4, 5, 6, 7, 8, 9, 10, 11, 12, 13, 14, 15, 16, 17, 18, 19, 20, 21, 22, 23, 24, 25, 26, 27, 28, 29, 30, 31, 32, 33, 34, 35, 36, 37, 38, 39, 40, 41, 42, 43, 44, 45, 46, 47, 48, 49, 50, 51, 52, 53, 54, 55, 56, 57, 58, 59, 60, 61, 62, 63, 64, 65, 66, 67, 68, 69, 70, MP1, MP2, MP3, MP4

## 502078-1360
designator J?
0.25 mm Pitch Easy-On(TM) Type FPC Connector, 1.0 mm Mated Height, Right Angle, SMT, Bottom Contact, 13 Circuits, -20 to 85 degC, ELV and RoHS Compliant, Tape and Reel; Manufacturer: Molex; PartNumber: 502078-1360; Circuits (Loaded): 13; Current (Max per Contact): 0.2A; Durability (mating cycles max): 10; Entry Angle: 90degrees Angle; Mated Height: 1.00mm; Material - Metal: Phosphor Bronze; Material - Plating Mating: Gold; PCB Locator: No; PCB Retention: Yes; Pitch - Mating Interface: 0.25mm; Voltage (Max): 50V; PackageVersion: Rev. D, 06/2013; PackageReference: 502078-1360; PackageDescription: 13-Lead FPC Connector, Pitch 0.25 mm; Contact Position: Bottom; Material - Plating Termination: Gold; Number of Rows: 1; Orientation: Right Angle; Packing: Tape and Reel; Polarized to PCB: Yes; RoHS: TRUE; Stackable: No; Mounting Technology: Surface Mount; ComponentLink1Description: Manufacturer URL; ComponentLink1URL: http://www.molex.com/molex/index.jsp; ComponentLink2Description: Datasheet; ComponentLink2URL: http://www.molex.com/webdocs/datasheets/pdf/en-us/5020781360_FFC_FPC_CONNECTORS.pdf; ComponentLink3Description: Package Specification; ComponentLink3URL: http://www.molex.com/pdm_docs/sd/5020781360_sd.pdf
footprint MOLX-502078-1360 (FPC Connector, 13-Leads, Right Angle, Pitch 0.25 mm, Mated Height 1.0 mm, SMT)
pins: 1, 2, 3, 4, 5, 6, 7, 8, 9, 10, 11, 12, 13, MP1, MP2

## 502078-1710
designator J?
0.25 mm Pitch Easy-On(TM) Type FPC Connector, 1.0 mm Mated Height, Right Angle, SMT, Bottom Contact, 17 Circuits, -20 to 85 degC, ELV and RoHS Compliant, Tape and Reel; Manufacturer: Molex; PartNumber: 502078-1710; Circuits (Loaded): 17; Current (Max per Contact): 0.2A; Durability (mating cycles max): 10; Entry Angle: 90degrees Angle; Mated Height: 1.00mm; Material - Metal: Copper Alloy; Material - Plating Mating: Gold; PCB Locator: No; PCB Retention: Yes; Pitch - Mating Interface: 0.25mm; Voltage (Max): 50V; PackageVersion: Rev. B, 09/2011; PackageReference: 502078-1710; PackageDescription: 17-Lead FPC Connector, Pitch 0.25 mm; Contact Position: Bottom; Material - Plating Termination: Gold; Number of Rows: 1; Orientation: Right Angle; Packing: Tape and Reel; Polarized to PCB: Yes; RoHS: TRUE; Stackable: No; Mounting Technology: Surface Mount; ComponentLink1Description: Manufacturer URL; ComponentLink1URL: http://www.molex.com/molex/index.jsp; ComponentLink2Description: Datasheet; ComponentLink2URL: http://www.molex.com/webdocs/datasheets/pdf/en-us/5020781710_FFC_FPC_CONNECTORS.pdf; ComponentLink3Description: Package Specification; ComponentLink3URL: http://www.molex.com/pdm_docs/sd/5020781710_sd.pdf
footprint MOLX-502078-1710 (FPC Connector, 17-Leads, Right Angle, Pitch 0.25 mm, Mated Height 1.0 mm, SMT)
pins: 1, 2, 3, 4, 5, 6, 7, 8, 9, 10, 11, 12, 13, 14, 15, 16, 17, MP1, MP2

## 502078-2110
designator J?
0.25 mm Pitch Easy-On(TM) Type FPC Connector, 1.0 mm Mated Height, Right Angle, SMT, Bottom Contact, 21 Circuits, -20 to 85 degC, ELV and RoHS Compliant, Tape and Reel; Manufacturer: Molex; PartNumber: 502078-2110; Circuits (Loaded): 21; Current (Max per Contact): 0.2A; Durability (mating cycles max): 10; Entry Angle: 90degrees Angle; Mated Height: 1.00mm; Material - Metal: Copper Alloy; Material - Plating Mating: Gold; PCB Locator: No; PCB Retention: Yes; Pitch - Mating Interface: 0.25mm; Voltage (Max): 50V; PackageVersion: Rev. B, 09/2011; PackageReference: 502078-2110; PackageDescription: 21-Lead FPC Connector, Pitch 0.25 mm; Contact Position: Bottom; Material - Plating Termination: Gold; Number of Rows: 1; Orientation: Right Angle; Packing: Tape and Reel; Polarized to PCB: Yes; RoHS: TRUE; Stackable: No; Mounting Technology: Surface Mount; ComponentLink1Description: Manufacturer URL; ComponentLink1URL: http://www.molex.com/molex/index.jsp; ComponentLink2Description: Datasheet; ComponentLink2URL: http://www.molex.com/webdocs/datasheets/pdf/en-us/5020782110_FFC_FPC_CONNECTORS.pdf; ComponentLink3Description: Package Specification; ComponentLink3URL: http://www.molex.com/pdm_docs/sd/5020782110_sd.pdf
footprint MOLX-502078-2110 (FPC Connector, 21-Leads, Right Angle, Pitch 0.25 mm, Mated Height 1.0 mm, SMT)
pins: 1, 2, 3, 4, 5, 6, 7, 8, 9, 10, 11, 12, 13, 14, 15, 16, 17, 18, 19, 20, 21, MP1, MP2

## 502078-2510
designator J?
0.25 mm Pitch Easy-On(TM) Type FPC Connector, 1.0 mm Mated Height, Right Angle, SMT, Bottom Contact, 25 Circuits, -20 to 85 degC, ELV and RoHS Compliant, Tape and Reel; Manufacturer: Molex; PartNumber: 502078-2510; Circuits (Loaded): 25; Current (Max per Contact): 0.2A; Durability (mating cycles max): 10; Entry Angle: 90degrees Angle; Mated Height: 1.00mm; Material - Metal: Copper Alloy; Material - Plating Mating: Gold; PCB Locator: No; PCB Retention: Yes; Pitch - Mating Interface: 0.25mm; Voltage (Max): 50V; PackageVersion: Rev. B, 09/2011; PackageReference: 502078-2510; PackageDescription: 25-Lead FPC Connector, Pitch 0.25 mm; Contact Position: Bottom; Material - Plating Termination: Gold; Number of Rows: 1; Orientation: Right Angle; Packing: Tape and Reel; Polarized to PCB: Yes; RoHS: TRUE; Stackable: No; Mounting Technology: Surface Mount; ComponentLink1Description: Manufacturer URL; ComponentLink1URL: http://www.molex.com/molex/index.jsp; ComponentLink2Description: Datasheet; ComponentLink2URL: http://www.molex.com/webdocs/datasheets/pdf/en-us/5020782510_FFC_FPC_CONNECTORS.pdf; ComponentLink3Description: Package Specification; ComponentLink3URL: http://www.molex.com/pdm_docs/sd/5020782510_sd.pdf
footprint MOLX-502078-2510 (FPC Connector, 25-Leads, Right Angle, Pitch 0.25 mm, Mated Height 1.0 mm, SMT)
pins: 1, 2, 3, 4, 5, 6, 7, 8, 9, 10, 11, 12, 13, 14, 15, 16, 17, 18, 19, 20, 21, 22, 23, 24, 25, MP1, MP2

## 502078-3310
designator J?
0.25 mm Pitch Easy-On(TM) Type FPC Connector, 1.0 mm Mated Height, Right Angle, SMT, Bottom Contact, 33 Circuits, -20 to 85 degC, ELV and RoHS Compliant, Tape and Reel; Manufacturer: Molex; PartNumber: 502078-3310; Circuits (Loaded): 33; Current (Max per Contact): 0.2A; Durability (mating cycles max): 10; Entry Angle: 90degrees Angle; Mated Height: 1.00mm; Material - Metal: Copper Alloy; Material - Plating Mating: Gold; PCB Locator: No; PCB Retention: Yes; Pitch - Mating Interface: 0.25mm; Voltage (Max): 50V; PackageVersion: Rev. B, 09/2011; PackageReference: 502078-3310; PackageDescription: 33-Lead FPC Connector, Pitch 0.25 mm; Contact Position: Bottom; Material - Plating Termination: Gold; Number of Rows: 1; Orientation: Right Angle; Packing: Tape and Reel; Polarized to PCB: Yes; RoHS: TRUE; Stackable: No; Mounting Technology: Surface Mount; ComponentLink1Description: Manufacturer URL; ComponentLink1URL: http://www.molex.com/molex/index.jsp; ComponentLink2Description: Datasheet; ComponentLink2URL: http://www.molex.com/webdocs/datasheets/pdf/en-us/5020783310_FFC_FPC_CONNECTORS.pdf; ComponentLink3Description: Package Specification; ComponentLink3URL: http://www.molex.com/pdm_docs/sd/5020783310_sd.pdf
footprint MOLX-502078-3310 (FPC Connector, 33-Leads, Right Angle, Pitch 0.25 mm, Mated Height 1.0 mm, SMT)
pins: 1, 2, 3, 4, 5, 6, 7, 8, 9, 10, 11, 12, 13, 14, 15, 16, 17, 18, 19, 20, 21, 22, 23, 24, 25, 26, 27, 28, 29, 30, 31, 32, 33, MP1, MP2

## 502078-3760
designator J?
0.25 mm Pitch Easy-On(TM) Type FPC Connector, 1.0 mm Mated Height, Right Angle, SMT, Bottom Contact, 37 Circuits, -20 to 85 degC, ELV and RoHS Compliant, Tape and Reel; Manufacturer: Molex; PartNumber: 502078-3760; Circuits (Loaded): 37; Current (Max per Contact): 0.2A; Durability (mating cycles max): 10; Entry Angle: 90degrees Angle; Mated Height: 1.00mm; Material - Metal: Copper Alloy; Material - Plating Mating: Gold; PCB Locator: No; PCB Retention: Yes; Pitch - Mating Interface: 0.25mm; Voltage (Max): 50V; PackageVersion: Rev. D, 06/2013; PackageReference: 502078-3760; PackageDescription: 37-Lead FPC Connector, Pitch 0.25 mm; Contact Position: Bottom; Material - Plating Termination: Gold; Number of Rows: 1; Orientation: Right Angle; Packing: Tape and Reel; Polarized to PCB: Yes; RoHS: TRUE; Stackable: No; Mounting Technology: Surface Mount; ComponentLink1Description: Manufacturer URL; ComponentLink1URL: http://www.molex.com/molex/index.jsp; ComponentLink2Description: Datasheet; ComponentLink2URL: http://www.molex.com/webdocs/datasheets/pdf/en-us/5020783760_FFC_FPC_CONNECTORS.pdf; ComponentLink3Description: Package Specification; ComponentLink3URL: http://www.molex.com/pdm_docs/sd/5020783760_sd.pdf
footprint MOLX-502078-3760 (FPC Connector, 37-Leads, Right Angle, Pitch 0.25 mm, Mated Height 1.0 mm, SMT)
pins: 1, 2, 3, 4, 5, 6, 7, 8, 9, 10, 11, 12, 13, 14, 15, 16, 17, 18, 19, 20, 21, 22, 23, 24, 25, 26, 27, 28, 29, 30, 31, 32, 33, 34, 35, 36, 37, MP1, MP2

## 502078-3910
designator J?
0.25 mm Pitch Easy-On(TM) Type FPC Connector, 1.0 mm Mated Height, Right Angle, SMT, Bottom Contact, 39 Circuits, -20 to 85 degC, ELV and RoHS Compliant, Tape and Reel; Manufacturer: Molex; PartNumber: 502078-3910; Circuits (Loaded): 39; Current (Max per Contact): 0.2A; Durability (mating cycles max): 10; Entry Angle: 90degrees Angle; Mated Height: 1.00mm; Material - Metal: Copper Alloy; Material - Plating Mating: Gold; PCB Locator: No; PCB Retention: Yes; Pitch - Mating Interface: 0.25mm; Voltage (Max): 50V; PackageVersion: Rev. B, 09/2011; PackageReference: 502078-3910; PackageDescription: 39-Lead FPC Connector, Pitch 0.25 mm; Contact Position: Bottom; Material - Plating Termination: Gold; Number of Rows: 1; Orientation: Right Angle; Packing: Tape and Reel; Polarized to PCB: Yes; RoHS: TRUE; Stackable: No; Mounting Technology: Surface Mount; ComponentLink1Description: Manufacturer URL; ComponentLink1URL: http://www.molex.com/molex/index.jsp; ComponentLink2Description: Datasheet; ComponentLink2URL: http://www.molex.com/webdocs/datasheets/pdf/en-us/5020783910_FFC_FPC_CONNECTORS.pdf; ComponentLink3Description: Package Specification; ComponentLink3URL: http://www.molex.com/pdm_docs/sd/5020783910_sd.pdf
footprint MOLX-502078-3910 (FPC Connector, 39-Leads, Right Angle, Pitch 0.25 mm, Mated Height 1.0 mm, SMT)
pins: 1, 2, 3, 4, 5, 6, 7, 8, 9, 10, 11, 12, 13, 14, 15, 16, 17, 18, 19, 20, 21, 22, 23, 24, 25, 26, 27, 28, 29, 30, 31, 32, 33, 34, 35, 36, 37, 38, 39, MP1, MP2